# Altium footprint library PcbLib1.PcbLib: 2 footprints
Each footprint in its own frame and in the unit in brackets; x right, y up, seen from the top. Pads: shape width x height; smd on the part's side, far side on the other; paste and mask are expansions set on the pad; w line width, h text height; cw(c..) or ccw(c..) is an arc to the next point about the centre after c.
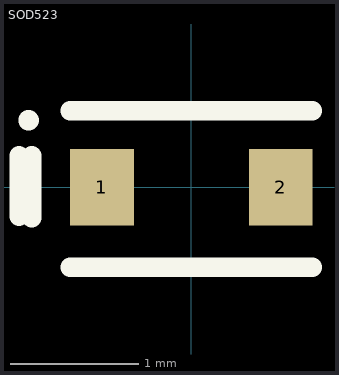
[diagram p0: the footprints below, top view; thin cyan lines are the x and y axes]

## RADIAN_FI23 [mm] "Heatsink with fan"
height 16
3D body "INL23001-10-1.7Y T725 - 05-Sep-2019.STEP": height 9.61, standoff -2.19, extent -14.897,-13.639 15.203,12.061

## SOD523 [mm]
pads (2):
  rect 0.5x0.6 smd: 1(-0.7,0) 2(0.7,0)
Top Overlay:
  lines w0.15: -1.35,-0.228 -1.35,0.25 ; -1.27,0.525 cw(c-1.275,0.525) -1.27,0.526 ; -1.25,-0.238 -1.25,0.248 ; -0.95,-0.625 0.95,-0.625 ; -0.95,0.6 0.95,0.6
3D body "SOD523.step": height 0.63, standoff 0.01, extent -0.8,-0.425 0.8,0.405